# Altium schematic symbol library ECS-3225MVQ.SchLib: 1 symbol
Pins are listed as number, name and electrical type; pins without a type are passive.

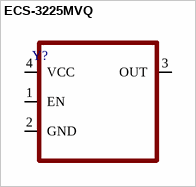
[diagram p0: symbol ECS-3225MVQ]

## ECS-3225MVQ
designator Y?
pins: 1 EN, 2 GND, 3 OUT, 4 VCC